# Altium schematic symbol library bargraph.SchLib: 1 symbol
Pins are listed as number, name and electrical type; pins without a type are passive.

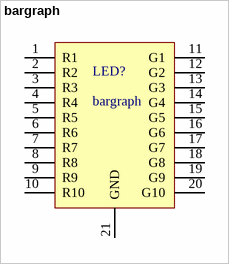
[diagram p0: symbol bargraph]

## bargraph
designator LED?
footprint bargraph
pins: 1 R1, 2 R2, 3 R3, 4 R4, 5 R5, 6 R6, 7 R7, 8 R8, 9 R9, 10 R10, 11 G1, 12 G2, 13 G3, 14 G4, 15 G5, 16 G6, 17 G7, 18 G8, 19 G9, 20 G10, 21 GND